# Altium schematic symbol library Filter.SchLib: 78 symbols
Pins are listed as number, name and electrical type; pins without a type are passive.

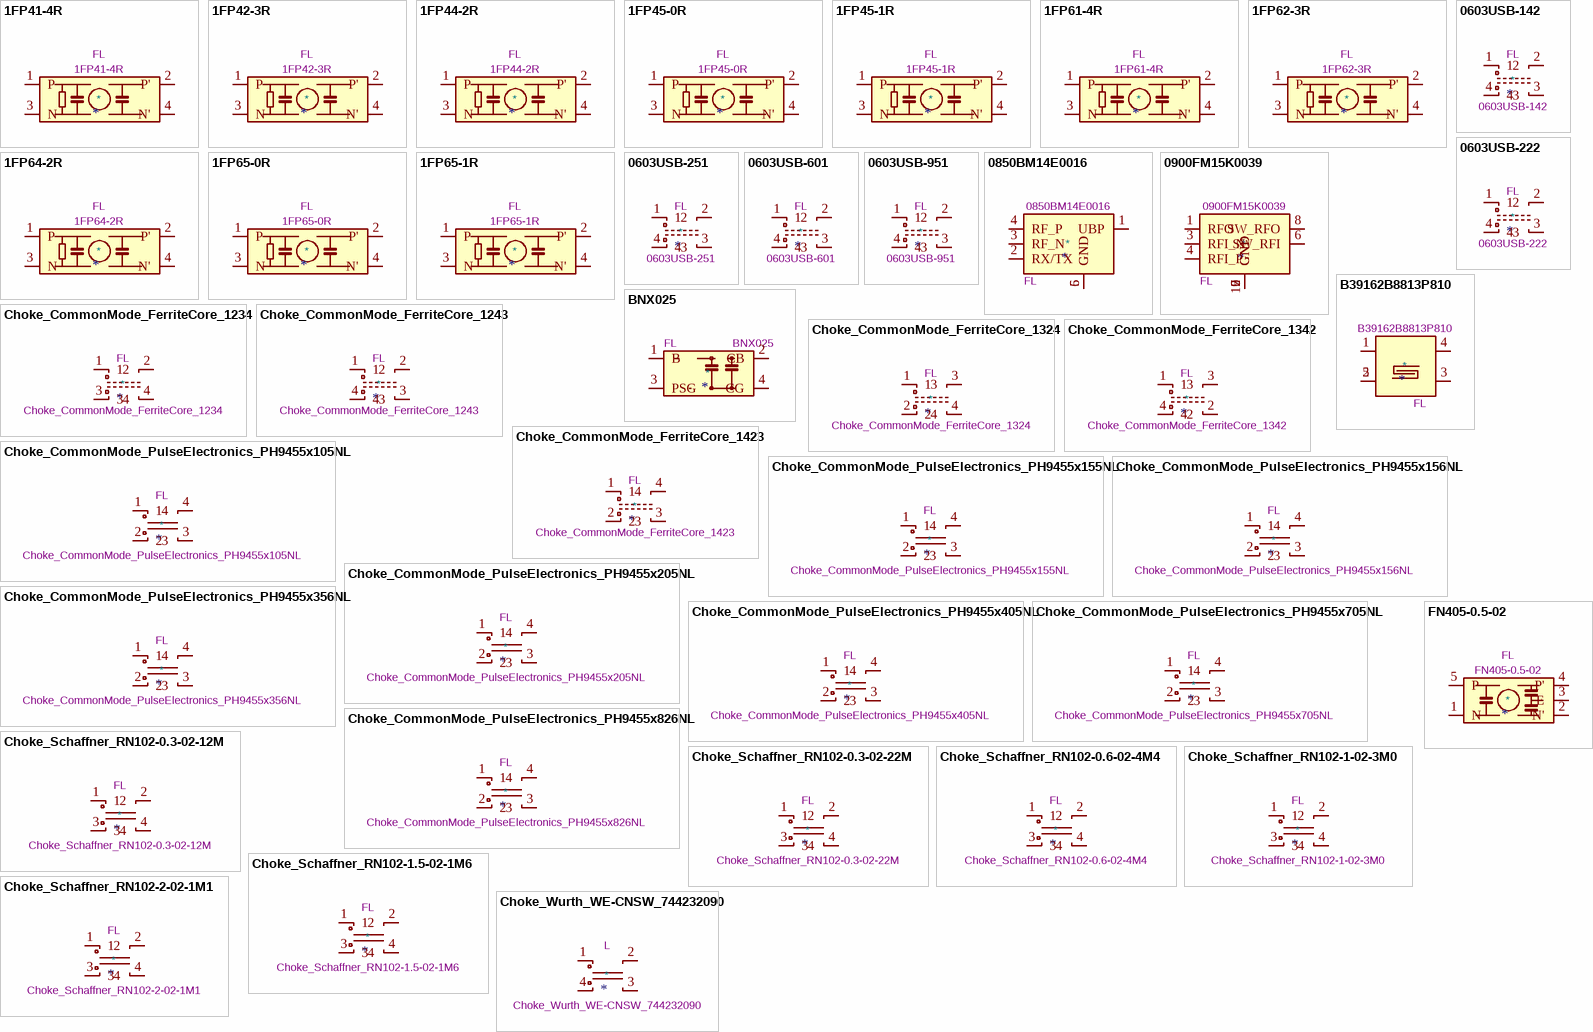
[diagram p0: symbols 1FP41-4R to FN405-0.5-02]

## 1FP41-4R
designator *  value 1FP41-4R  Reference: FL
4A, 250VAC, 50/60Hz line filter; ki_keywords: EMI; ki_fp_filters: Filter*FILTERCON*1FPxx*; Footprint: Filter:Filter_FILTERCON_1FPxx; Datasheet: https://filtercon.com.pl/wp-content/uploads/2019/07/Karta-katalogowa-FP-12-1.pdf; Description_: 4A, 250VAC, 50/60Hz line filter
pins: 1 P, 2 P', 3 N, 4 N'

## 1FP42-3R
designator *  value 1FP42-3R  Reference: FL
3A, 250VAC, 50/60Hz line filter; ki_keywords: EMI; ki_fp_filters: Filter*FILTERCON*1FPxx*; Footprint: Filter:Filter_FILTERCON_1FPxx; Datasheet: https://filtercon.com.pl/wp-content/uploads/2019/07/Karta-katalogowa-FP-12-1.pdf; Description_: 3A, 250VAC, 50/60Hz line filter
pins: 1 P, 2 P', 3 N, 4 N'

## 1FP44-2R
designator *  value 1FP44-2R  Reference: FL
2A, 250VAC, 50/60Hz line filter; ki_keywords: EMI; ki_fp_filters: Filter*FILTERCON*1FPxx*; Footprint: Filter:Filter_FILTERCON_1FPxx; Datasheet: https://filtercon.com.pl/wp-content/uploads/2019/07/Karta-katalogowa-FP-12-1.pdf; Description_: 2A, 250VAC, 50/60Hz line filter
pins: 1 P, 2 P', 3 N, 4 N'

## 1FP45-0R
designator *  value 1FP45-0R  Reference: FL
0.5A, 250VAC, 50/60Hz line filter; ki_keywords: EMI; ki_fp_filters: Filter*FILTERCON*1FPxx*; Footprint: Filter:Filter_FILTERCON_1FPxx; Datasheet: https://filtercon.com.pl/wp-content/uploads/2019/07/Karta-katalogowa-FP-12-1.pdf; Description_: 0.5A, 250VAC, 50/60Hz line filter
pins: 1 P, 2 P', 3 N, 4 N'

## 1FP45-1R
designator *  value 1FP45-1R  Reference: FL
1A, 250VAC, 50/60Hz line filter; ki_keywords: EMI; ki_fp_filters: Filter*FILTERCON*1FPxx*; Footprint: Filter:Filter_FILTERCON_1FPxx; Datasheet: https://filtercon.com.pl/wp-content/uploads/2019/07/Karta-katalogowa-FP-12-1.pdf; Description_: 1A, 250VAC, 50/60Hz line filter
pins: 1 P, 2 P', 3 N, 4 N'

## 1FP61-4R
designator *  value 1FP61-4R  Reference: FL
4A, 250VAC, 50/60Hz line filter; ki_keywords: EMI; ki_fp_filters: Filter*FILTERCON*1FPxx*; Footprint: Filter:Filter_FILTERCON_1FPxx; Datasheet: https://filtercon.com.pl/wp-content/uploads/2019/07/Karta-katalogowa-FP-12-1.pdf; Description_: 4A, 250VAC, 50/60Hz line filter
pins: 1 P, 2 P', 3 N, 4 N'

## 1FP62-3R
designator *  value 1FP62-3R  Reference: FL
3A, 250VAC, 50/60Hz line filter; ki_keywords: EMI; ki_fp_filters: Filter*FILTERCON*1FPxx*; Footprint: Filter:Filter_FILTERCON_1FPxx; Datasheet: https://filtercon.com.pl/wp-content/uploads/2019/07/Karta-katalogowa-FP-12-1.pdf; Description_: 3A, 250VAC, 50/60Hz line filter
pins: 1 P, 2 P', 3 N, 4 N'

## 1FP64-2R
designator *  value 1FP64-2R  Reference: FL
2A, 250VAC, 50/60Hz line filter; ki_keywords: EMI; ki_fp_filters: Filter*FILTERCON*1FPxx*; Footprint: Filter:Filter_FILTERCON_1FPxx; Datasheet: https://filtercon.com.pl/wp-content/uploads/2019/07/Karta-katalogowa-FP-12-1.pdf; Description_: 2A, 250VAC, 50/60Hz line filter
pins: 1 P, 2 P', 3 N, 4 N'

## 1FP65-0R
designator *  value 1FP65-0R  Reference: FL
0.5A, 250VAC, 50/60Hz line filter; ki_keywords: EMI; ki_fp_filters: Filter*FILTERCON*1FPxx*; Footprint: Filter:Filter_FILTERCON_1FPxx; Datasheet: https://filtercon.com.pl/wp-content/uploads/2019/07/Karta-katalogowa-FP-12-1.pdf; Description_: 0.5A, 250VAC, 50/60Hz line filter
pins: 1 P, 2 P', 3 N, 4 N'

## 1FP65-1R
designator *  value 1FP65-1R  Reference: FL
1A, 250VAC, 50/60Hz line filter; ki_keywords: EMI; ki_fp_filters: Filter*FILTERCON*1FPxx*; Footprint: Filter:Filter_FILTERCON_1FPxx; Datasheet: https://filtercon.com.pl/wp-content/uploads/2019/07/Karta-katalogowa-FP-12-1.pdf; Description_: 1A, 250VAC, 50/60Hz line filter
pins: 1 P, 2 P', 3 N, 4 N'

## 0603USB-142
designator *  value 0603USB-142  Reference: FL
Coilcraft common mode choke, 500mA, 250VAC, 98nH, 174mohm, 1.9Ghz; ki_keywords: signal line filter; ki_fp_filters: L*CommonModeChoke*Coilcraft*0603USB*; Footprint: Inductor_SMD:L_CommonModeChoke_Coilcraft_0603USB; Datasheet: https://www.coilcraft.com/pdfs/0603usb.pdf; Description_: Coilcraft common mode choke, 500mA, 250VAC, 98nH, 174mohm, 1.9Ghz
pins: 1, 2, 3, 4

## 0603USB-222
designator *  value 0603USB-222  Reference: FL
Coilcraft common mode choke, 500mA, 250VAC, 150nH, 209mohm, 0.96Ghz; ki_keywords: signal line filter; ki_fp_filters: L*CommonModeChoke*Coilcraft*0603USB*; Footprint: Inductor_SMD:L_CommonModeChoke_Coilcraft_0603USB; Datasheet: https://www.coilcraft.com/pdfs/0603usb.pdf; Description_: Coilcraft common mode choke, 500mA, 250VAC, 150nH, 209mohm, 0.96Ghz
pins: 1, 2, 3, 4

## 0603USB-251
designator *  value 0603USB-251  Reference: FL
Coilcraft common mode choke, 500mA, 250VAC, 18nH, 77 mohm, 3.8Ghz; ki_keywords: signal line filter; ki_fp_filters: L*CommonModeChoke*Coilcraft*0603USB*; Footprint: Inductor_SMD:L_CommonModeChoke_Coilcraft_0603USB; Datasheet: https://www.coilcraft.com/pdfs/0603usb.pdf; Description_: Coilcraft common mode choke, 500mA, 250VAC, 18nH, 77 mohm, 3.8Ghz
pins: 1, 2, 3, 4

## 0603USB-601
designator *  value 0603USB-601  Reference: FL
Coilcraft common mode choke, 500mA, 250VAC, 37nH, 109mohm, 3.4Ghz; ki_keywords: signal line filter; ki_fp_filters: L*CommonModeChoke*Coilcraft*0603USB*; Footprint: Inductor_SMD:L_CommonModeChoke_Coilcraft_0603USB; Datasheet: https://www.coilcraft.com/pdfs/0603usb.pdf; Description_: Coilcraft common mode choke, 500mA, 250VAC, 37nH, 109mohm, 3.4Ghz
pins: 1, 2, 3, 4

## 0603USB-951
designator *  value 0603USB-951  Reference: FL
Coilcraft common mode choke, 500mA, 250VAC, 63nH, 142mohm, 2.8Ghz; ki_keywords: signal line filter; ki_fp_filters: L*CommonModeChoke*Coilcraft*0603USB*; Footprint: Inductor_SMD:L_CommonModeChoke_Coilcraft_0603USB; Datasheet: https://www.coilcraft.com/pdfs/0603usb.pdf; Description_: Coilcraft common mode choke, 500mA, 250VAC, 63nH, 142mohm, 2.8Ghz
pins: 1, 2, 3, 4

## 0850BM14E0016
designator *  value 0850BM14E0016  Reference: FL
Sub-GHz Impedance Matched Balun + LPF integrated Passive; ki_keywords: Sub-GHz Balun; ki_fp_filters: Balun*Johanson*1.6x0.8mm*; Footprint: RF_Converter:Balun_Johanson_1.6x0.8mm; Datasheet: https://www.johansontechnology.com/datasheets/0850BM14E0016/0850BM14E0016.pdf; Description_: Sub-GHz Impedance Matched Balun + LPF integrated Passive
pins: 1 UBP, 2 RX/TX, 3 RF_N, 4 RF_P, 5 GND, 6 GND

## 0900FM15K0039
designator *  value 0900FM15K0039  Reference: FL
868MHz/915MHz Sub-GHz Impedance Matched Filter integrated passive for Semtech SX1261, SX1262, LLCC68; ki_keywords: Sub-GHz filter; ki_fp_filters: Balun*Johanson*0900FM15K0039*; Footprint: RF_Converter:Balun_Johanson_0900FM15K0039; Datasheet: https://www.johansontechnology.com/datasheets/0900FM15K0039/0900FM15K0039.pdf; Description_: 868MHz/915MHz Sub-GHz Impedance Matched Filter integrated passive for Semtech SX1261, SX1262, LLCC68
pins: 1 RFO, 2 GND, 3 RFI_N, 4 RFI_P, 5 GND, 6 SW_RFI, 7 GND, 8 SW_RFO, 9 GND, 10 GND

## B39162B8813P810
designator *  value B39162B8813P810  Reference: FL
1582.47MHz SAW filter, SMD 1109; ki_fp_filters: Filter*1109*1.1x0.9mm*; Footprint: Filter:Filter_1109-5_1.1x0.9mm; Datasheet: https://product.tdk.com/search-template/en/documents/data_sheet/40/ds/mc/B9482.pdf; Description_: 1582.47MHz SAW filter, SMD 1109; ki_keywords: SAW filter
pins: 1, 2, 3, 4, 5

## BNX025
designator *  value BNX025  Reference: FL
EMI Filter SMD, Murata BNX025; ki_keywords: EMI Filter SMD Murata; ki_fp_filters: Filter*Murata*BNX025*; Footprint: Filter:Filter_Murata_BNX025; Datasheet: https://www.murata.com/en-us/products/productdetail.aspx?cate=luNoiseSupprFilteBlockType&partno=BNX025H01%23; Description_: EMI Filter SMD, Murata BNX025
pins: 1 B, 2 CB, 3 PSG, 4 CG

## Choke_CommonMode_FerriteCore_1234
designator *  value Choke_CommonMode_FerriteCore_1234  Reference: FL
Generic common-mode choke, ferrite core, 1234 pin order; ki_keywords: signal line filter; Datasheet: ~; Description_: Generic common-mode choke, ferrite core, 1234 pin order
pins: 1, 2, 3, 4

## Choke_CommonMode_FerriteCore_1243
designator *  value Choke_CommonMode_FerriteCore_1243  Reference: FL
Generic common-mode choke, ferrite core, 1243 pin order; ki_keywords: signal line filter; Datasheet: ~; Description_: Generic common-mode choke, ferrite core, 1243 pin order
pins: 1, 2, 3, 4

## Choke_CommonMode_FerriteCore_1324
designator *  value Choke_CommonMode_FerriteCore_1324  Reference: FL
Generic common-mode choke, ferrite core, 1324 pin order; ki_keywords: signal line filter; Datasheet: ~; Description_: Generic common-mode choke, ferrite core, 1324 pin order
pins: 1, 2, 3, 4

## Choke_CommonMode_FerriteCore_1342
designator *  value Choke_CommonMode_FerriteCore_1342  Reference: FL
Generic common-mode choke, ferrite core, 1342 pin order; ki_keywords: signal line filter; Datasheet: ~; Description_: Generic common-mode choke, ferrite core, 1342 pin order
pins: 1, 2, 3, 4

## Choke_CommonMode_FerriteCore_1423
designator *  value Choke_CommonMode_FerriteCore_1423  Reference: FL
Generic common-mode choke, ferrite core, 1423 pin order; ki_keywords: signal line filter; Datasheet: ~; Description_: Generic common-mode choke, ferrite core, 1423 pin order
pins: 1, 2, 3, 4

## Choke_CommonMode_PulseElectronics_PH9455x105NL
designator *  value Choke_CommonMode_PulseElectronics_PH9455x105NL  Reference: FL
Common mode choke, 22A, 380VAC, 1mH, 2.1 mOhm, PH9455x105NL; ki_keywords: common-mode common mode choke powerline power line filter; ki_fp_filters: L*CommonMode*PulseElectronics*PH9455x105NL?1*; Footprint: Inductor_THT:L_CommonMode_PulseElectronics_PH9455x105NL_1; Datasheet: https://productfinder.pulseelectronics.com/api/open/product-attachments/datasheet/ph9455.105nl; Description_: Common mode choke, 22A, 380VAC, 1mH, 2.1 mOhm, PH9455x105NL
pins: 1, 2, 3, 4

## Choke_CommonMode_PulseElectronics_PH9455x155NL
designator *  value Choke_CommonMode_PulseElectronics_PH9455x155NL  Reference: FL
Common mode choke, 19A, 380VAC, 1.62mH, 3.2 mOhm, PH9455x155NL; ki_keywords: common-mode common mode choke powerline power line filter; ki_fp_filters: L*CommonMode*PulseElectronics*PH9455x155NL?1*; Footprint: Inductor_THT:L_CommonMode_PulseElectronics_PH9455x155NL_1; Datasheet: https://productfinder.pulseelectronics.com/api/open/product-attachments/datasheet/ph9455.105nl; Description_: Common mode choke, 19A, 380VAC, 1.62mH, 3.2 mOhm, PH9455x155NL
pins: 1, 2, 3, 4

## Choke_CommonMode_PulseElectronics_PH9455x156NL
designator *  value Choke_CommonMode_PulseElectronics_PH9455x156NL  Reference: FL
Common mode choke, 6A, 380VAC, 15mH, 30 mOhm, PH9455x156NL; ki_keywords: common-mode common mode choke powerline power line filter; ki_fp_filters: L*CommonMode*PulseElectronics*PH9455xxx6NL?2*; Footprint: Inductor_THT:L_CommonMode_PulseElectronics_PH9455xxx6NL_2; Datasheet: https://productfinder.pulseelectronics.com/api/open/product-attachments/datasheet/ph9455.105nl; Description_: Common mode choke, 6A, 380VAC, 15mH, 30 mOhm, PH9455x156NL
pins: 1, 2, 3, 4

## Choke_CommonMode_PulseElectronics_PH9455x205NL
designator *  value Choke_CommonMode_PulseElectronics_PH9455x205NL  Reference: FL
Common mode choke, 16A, 380VAC, 2.2mH, 4.5 mOhm, PH9455x205NL; ki_keywords: common-mode common mode choke powerline power line filter; ki_fp_filters: L*CommonMode*PulseElectronics*PH9455x205NL?1*; Footprint: Inductor_THT:L_CommonMode_PulseElectronics_PH9455x205NL_1; Datasheet: https://productfinder.pulseelectronics.com/api/open/product-attachments/datasheet/ph9455.105nl; Description_: Common mode choke, 16A, 380VAC, 2.2mH, 4.5 mOhm, PH9455x205NL
pins: 1, 2, 3, 4

## Choke_CommonMode_PulseElectronics_PH9455x356NL
designator *  value Choke_CommonMode_PulseElectronics_PH9455x356NL  Reference: FL
Common mode choke, 4A, 380VAC, 35mH, 80 mOhm, PH9455x356NL; ki_keywords: common-mode common mode choke powerline power line filter; ki_fp_filters: L*CommonMode*PulseElectronics*PH9455xxx6NL?2*; Footprint: Inductor_THT:L_CommonMode_PulseElectronics_PH9455xxx6NL_2; Datasheet: https://productfinder.pulseelectronics.com/api/open/product-attachments/datasheet/ph9455.105nl; Description_: Common mode choke, 4A, 380VAC, 35mH, 80 mOhm, PH9455x356NL
pins: 1, 2, 3, 4

## Choke_CommonMode_PulseElectronics_PH9455x405NL
designator *  value Choke_CommonMode_PulseElectronics_PH9455x405NL  Reference: FL
Common mode choke, 12A, 380VAC, 4.5mH, 8.5 mOhm, PH9455x405NL; ki_keywords: common-mode common mode choke powerline power line filter; ki_fp_filters: L*CommonMode*PulseElectronics*PH9455x405NL?1*; Footprint: Inductor_THT:L_CommonMode_PulseElectronics_PH9455x405NL_1; Datasheet: https://productfinder.pulseelectronics.com/api/open/product-attachments/datasheet/ph9455.105nl; Description_: Common mode choke, 12A, 380VAC, 4.5mH, 8.5 mOhm, PH9455x405NL
pins: 1, 2, 3, 4

## Choke_CommonMode_PulseElectronics_PH9455x705NL
designator *  value Choke_CommonMode_PulseElectronics_PH9455x705NL  Reference: FL
Common mode choke, 9A, 380VAC, 6.5mH, 14 mOhm, PH9455x705NL; ki_keywords: common-mode common mode choke powerline power line filter; ki_fp_filters: L*CommonMode*PulseElectronics*PH9455x705NL?1*; Footprint: Inductor_THT:L_CommonMode_PulseElectronics_PH9455x705NL_1; Datasheet: https://productfinder.pulseelectronics.com/api/open/product-attachments/datasheet/ph9455.105nl; Description_: Common mode choke, 9A, 380VAC, 6.5mH, 14 mOhm, PH9455x705NL
pins: 1, 2, 3, 4

## Choke_CommonMode_PulseElectronics_PH9455x826NL
designator *  value Choke_CommonMode_PulseElectronics_PH9455x826NL  Reference: FL
Common mode choke, 3A, 380VAC, 82mH, 150 mOhm, PH9455x826NL; ki_keywords: common-mode common mode choke powerline power line filter; ki_fp_filters: L*CommonMode*PulseElectronics*PH9455xxx6NL?2*; Footprint: Inductor_THT:L_CommonMode_PulseElectronics_PH9455xxx6NL_2; Datasheet: https://productfinder.pulseelectronics.com/api/open/product-attachments/datasheet/ph9455.105nl; Description_: Common mode choke, 3A, 380VAC, 82mH, 150 mOhm, PH9455x826NL
pins: 1, 2, 3, 4

## Choke_Schaffner_RN102-0.3-02-12M
designator *  value Choke_Schaffner_RN102-0.3-02-12M  Reference: FL
Common mode choke, 300mA, 300VAC, 12mH, 1.1 ohm, RN-102; ki_keywords: common-mode common mode choke powerline power line filter; ki_fp_filters: Choke*Schaffner*RN102*; Footprint: Inductor_THT:Choke_Schaffner_RN102-04-14.0x14.0mm; Datasheet: https://www.schaffner.com/products/download/product/datasheet/rn-series-common-mode-chokes-new/; Description_: Common mode choke, 300mA, 300VAC, 12mH, 1.1 ohm, RN-102
pins: 1, 2, 3, 4

## Choke_Schaffner_RN102-0.3-02-22M
designator *  value Choke_Schaffner_RN102-0.3-02-22M  Reference: FL
Common mode choke, 300mA, 300VAC, 22mH, 1.3 ohm, RN-102; ki_keywords: common-mode common mode choke powerline power line filter; ki_fp_filters: Choke*Schaffner*RN102*; Footprint: Inductor_THT:Choke_Schaffner_RN102-04-14.0x14.0mm; Datasheet: https://www.schaffner.com/products/download/product/datasheet/rn-series-common-mode-chokes-new/; Description_: Common mode choke, 300mA, 300VAC, 22mH, 1.3 ohm, RN-102
pins: 1, 2, 3, 4

## Choke_Schaffner_RN102-0.6-02-4M4
designator *  value Choke_Schaffner_RN102-0.6-02-4M4  Reference: FL
Common mode choke, 600mA, 300VAC, 4.4mH, 380mohm, RN-102; ki_keywords: common-mode common mode choke powerline power line filter; ki_fp_filters: Choke*Schaffner*RN102*; Footprint: Inductor_THT:Choke_Schaffner_RN102-04-14.0x14.0mm; Datasheet: https://www.schaffner.com/products/download/product/datasheet/rn-series-common-mode-chokes-new/; Description_: Common mode choke, 600mA, 300VAC, 4.4mH, 380mohm, RN-102
pins: 1, 2, 3, 4

## Choke_Schaffner_RN102-1-02-3M0
designator *  value Choke_Schaffner_RN102-1-02-3M0  Reference: FL
Common mode choke, 1A, 300VAC, 3mH, 210mohm, RN-102; ki_keywords: common-mode common mode choke powerline power line filter; ki_fp_filters: Choke*Schaffner*RN102*; Footprint: Inductor_THT:Choke_Schaffner_RN102-04-14.0x14.0mm; Datasheet: https://www.schaffner.com/products/download/product/datasheet/rn-series-common-mode-chokes-new/; Description_: Common mode choke, 1A, 300VAC, 3mH, 210mohm, RN-102
pins: 1, 2, 3, 4

## Choke_Schaffner_RN102-1.5-02-1M6
designator *  value Choke_Schaffner_RN102-1.5-02-1M6  Reference: FL
Common mode choke, 1.5A, 300VAC, 1.6mH, 94mohm, RN-102; ki_keywords: common-mode common mode choke powerline power line filter; ki_fp_filters: Choke*Schaffner*RN102*; Footprint: Inductor_THT:Choke_Schaffner_RN102-04-14.0x14.0mm; Datasheet: https://www.schaffner.com/products/download/product/datasheet/rn-series-common-mode-chokes-new/; Description_: Common mode choke, 1.5A, 300VAC, 1.6mH, 94mohm, RN-102
pins: 1, 2, 3, 4

## Choke_Schaffner_RN102-2-02-1M1
designator *  value Choke_Schaffner_RN102-2-02-1M1  Reference: FL
Common mode choke, 2A, 300VAC, 1.1mH, 70mohm, RN-102; ki_keywords: common-mode common mode choke powerline power line filter; ki_fp_filters: Choke*Schaffner*RN102*; Footprint: Inductor_THT:Choke_Schaffner_RN102-04-14.0x14.0mm; Datasheet: https://www.schaffner.com/products/download/product/datasheet/rn-series-common-mode-chokes-new/; Description_: Common mode choke, 2A, 300VAC, 1.1mH, 70mohm, RN-102
pins: 1, 2, 3, 4

## Choke_Wurth_WE-CNSW_744232090
designator *  value Choke_Wurth_WE-CNSW_744232090  Reference: L
Common mode choke, 370 mA, 125VDC, USB2.0, 111 nH; ki_keywords: common mode choke emi usb; ki_fp_filters: L*CommonMode*Wurth*WE*CNSW*1206*; Footprint: Inductor_SMD:L_CommonMode_Wurth_WE-CNSW-1206; Datasheet: https://www.we-online.com/components/products/datasheet/744232090.pdf; Description_: Common mode choke, 370 mA, 125VDC, USB2.0, 111 nH
pins: 1, 2, 3, 4

## FN405-0.5-02
designator *  value FN405-0.5-02  Reference: FL
0.5A, 250VAC, 50/60Hz line filter; ki_keywords: EMI; ki_fp_filters: Filter*Schaffner*FN405*; Footprint: Filter:Filter_Schaffner_FN405; Datasheet: https://www.schaffner.com/de/produkte/download/product/datasheet/fn-405-pcb-mounting-filter/; Description_: 0.5A, 250VAC, 50/60Hz line filter
pins: 1 N, 2 N', 3 E, 4 P', 5 P

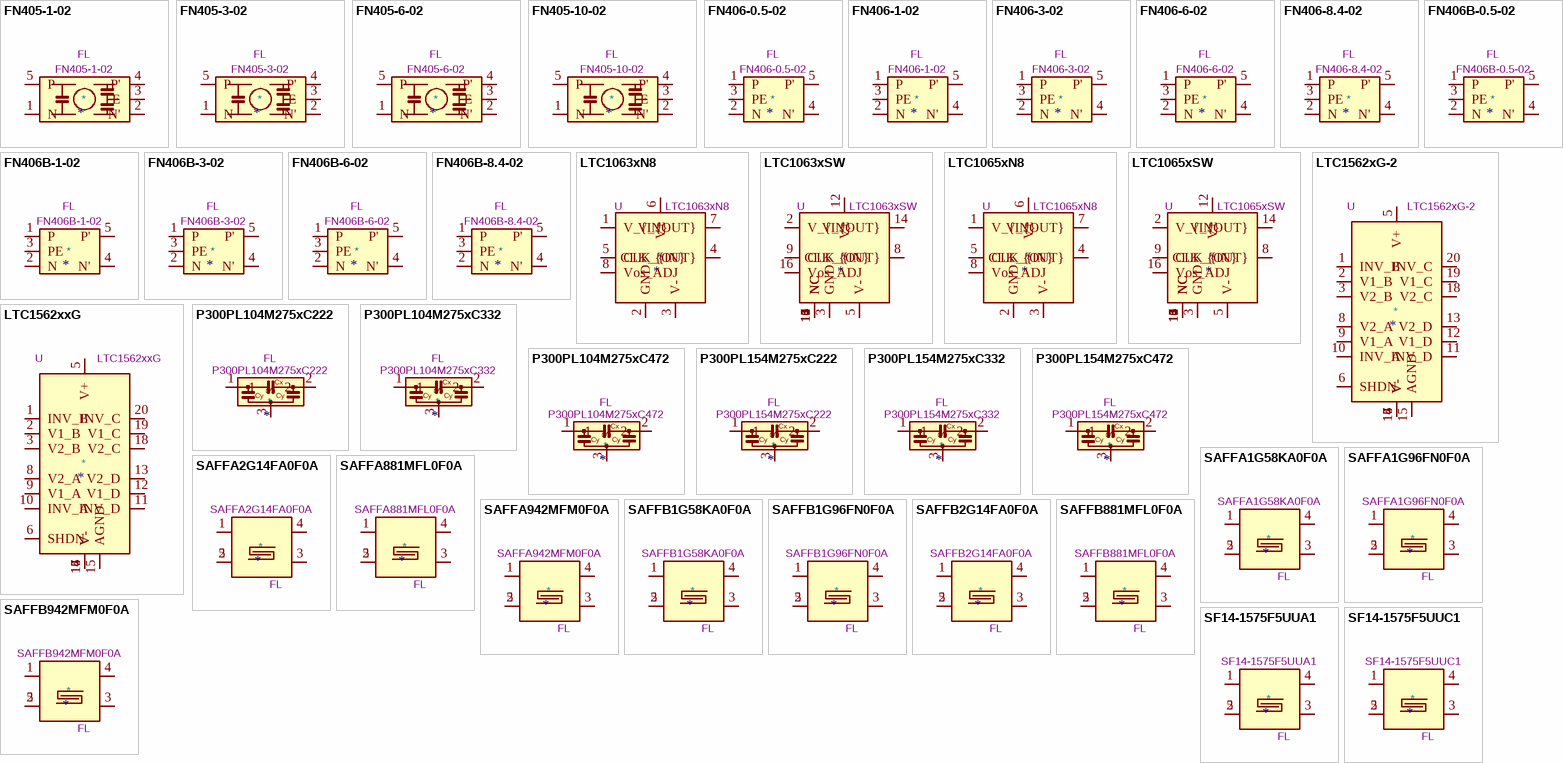
[diagram p1: symbols FN405-1-02 to SF14-1575F5UUC1]

## FN405-1-02
designator *  value FN405-1-02  Reference: FL
1A, 250VAC, 50/60Hz line filter; ki_keywords: EMI; ki_fp_filters: Filter*Schaffner*FN405*; Footprint: Filter:Filter_Schaffner_FN405; Datasheet: https://www.schaffner.com/de/produkte/download/product/datasheet/fn-405-pcb-mounting-filter/; Description_: 1A, 250VAC, 50/60Hz line filter
pins: 1 N, 2 N', 3 E, 4 P', 5 P

## FN405-3-02
designator *  value FN405-3-02  Reference: FL
3A, 250VAC, 50/60Hz line filter; ki_keywords: EMI; ki_fp_filters: Filter*Schaffner*FN405*; Footprint: Filter:Filter_Schaffner_FN405; Datasheet: https://www.schaffner.com/de/produkte/download/product/datasheet/fn-405-pcb-mounting-filter/; Description_: 3A, 250VAC, 50/60Hz line filter
pins: 1 N, 2 N', 3 E, 4 P', 5 P

## FN405-6-02
designator *  value FN405-6-02  Reference: FL
6A, 250VAC, 50/60Hz line filter; ki_keywords: EMI; ki_fp_filters: Filter*Schaffner*FN405*; Footprint: Filter:Filter_Schaffner_FN405; Datasheet: https://www.schaffner.com/de/produkte/download/product/datasheet/fn-405-pcb-mounting-filter/; Description_: 6A, 250VAC, 50/60Hz line filter
pins: 1 N, 2 N', 3 E, 4 P', 5 P

## FN405-10-02
designator *  value FN405-10-02  Reference: FL
10A, 250VAC, 50/60Hz line filter; ki_keywords: EMI; ki_fp_filters: Filter*Schaffner*FN405*; Footprint: Filter:Filter_Schaffner_FN405; Datasheet: https://www.schaffner.com/de/produkte/download/product/datasheet/fn-405-pcb-mounting-filter/; Description_: 10A, 250VAC, 50/60Hz line filter
pins: 1 N, 2 N', 3 E, 4 P', 5 P

## FN406-0.5-02
designator *  value FN406-0.5-02  Reference: FL
0.5A ultra compact EMI Filter; ki_keywords: EMI mains; ki_fp_filters: Filter*Schaffner*FN406*; Footprint: Filter:Filter_Schaffner_FN406; Datasheet: https://www.schaffner.com/products/download/product/datasheet/fn-406-ultra-compact-emc-filter/; Description_: 0.5A ultra compact EMI Filter
pins: 1 P, 2 N, 3 PE, 4 N', 5 P'

## FN406-1-02
designator *  value FN406-1-02  Reference: FL
1A ultra compact EMI Filter; ki_keywords: EMI mains; ki_fp_filters: Filter*Schaffner*FN406*; Footprint: Filter:Filter_Schaffner_FN406; Datasheet: https://www.schaffner.com/products/download/product/datasheet/fn-406-ultra-compact-emc-filter/; Description_: 1A ultra compact EMI Filter
pins: 1 P, 2 N, 3 PE, 4 N', 5 P'

## FN406-3-02
designator *  value FN406-3-02  Reference: FL
3A ultra compact EMI Filter; ki_keywords: EMI mains; ki_fp_filters: Filter*Schaffner*FN406*; Footprint: Filter:Filter_Schaffner_FN406; Datasheet: https://www.schaffner.com/products/download/product/datasheet/fn-406-ultra-compact-emc-filter/; Description_: 3A ultra compact EMI Filter
pins: 1 P, 2 N, 3 PE, 4 N', 5 P'

## FN406-6-02
designator *  value FN406-6-02  Reference: FL
6A ultra compact EMI Filter; ki_keywords: EMI mains; ki_fp_filters: Filter*Schaffner*FN406*; Footprint: Filter:Filter_Schaffner_FN406; Datasheet: https://www.schaffner.com/products/download/product/datasheet/fn-406-ultra-compact-emc-filter/; Description_: 6A ultra compact EMI Filter
pins: 1 P, 2 N, 3 PE, 4 N', 5 P'

## FN406-8.4-02
designator *  value FN406-8.4-02  Reference: FL
8.4A ultra compact EMI Filter; ki_keywords: EMI mains; ki_fp_filters: Filter*Schaffner*FN406*; Footprint: Filter:Filter_Schaffner_FN406; Datasheet: https://www.schaffner.com/products/download/product/datasheet/fn-406-ultra-compact-emc-filter/; Description_: 8.4A ultra compact EMI Filter
pins: 1 P, 2 N, 3 PE, 4 N', 5 P'

## FN406B-0.5-02
designator *  value FN406B-0.5-02  Reference: FL
0.5A ultra compact EMI Filter, medical version; ki_keywords: EMI mains; ki_fp_filters: Filter*Schaffner*FN406*; Footprint: Filter:Filter_Schaffner_FN406; Datasheet: https://www.schaffner.com/products/download/product/datasheet/fn-406-ultra-compact-emc-filter/; Description_: 0.5A ultra compact EMI Filter, medical version
pins: 1 P, 2 N, 3 PE, 4 N', 5 P'

## FN406B-1-02
designator *  value FN406B-1-02  Reference: FL
1A ultra compact EMI Filter, medical version; ki_keywords: EMI mains; ki_fp_filters: Filter*Schaffner*FN406*; Footprint: Filter:Filter_Schaffner_FN406; Datasheet: https://www.schaffner.com/products/download/product/datasheet/fn-406-ultra-compact-emc-filter/; Description_: 1A ultra compact EMI Filter, medical version
pins: 1 P, 2 N, 3 PE, 4 N', 5 P'

## FN406B-3-02
designator *  value FN406B-3-02  Reference: FL
3A ultra compact EMI Filter, medical version; ki_keywords: EMI mains; ki_fp_filters: Filter*Schaffner*FN406*; Footprint: Filter:Filter_Schaffner_FN406; Datasheet: https://www.schaffner.com/products/download/product/datasheet/fn-406-ultra-compact-emc-filter/; Description_: 3A ultra compact EMI Filter, medical version
pins: 1 P, 2 N, 3 PE, 4 N', 5 P'

## FN406B-6-02
designator *  value FN406B-6-02  Reference: FL
6A ultra compact EMI Filter, medical version; ki_keywords: EMI mains; ki_fp_filters: Filter*Schaffner*FN406*; Footprint: Filter:Filter_Schaffner_FN406; Datasheet: https://www.schaffner.com/products/download/product/datasheet/fn-406-ultra-compact-emc-filter/; Description_: 6A ultra compact EMI Filter, medical version
pins: 1 P, 2 N, 3 PE, 4 N', 5 P'

## FN406B-8.4-02
designator *  value FN406B-8.4-02  Reference: FL
8.4A ultra compact EMI Filter, medical version; ki_keywords: EMI mains; ki_fp_filters: Filter*Schaffner*FN406*; Footprint: Filter:Filter_Schaffner_FN406; Datasheet: https://www.schaffner.com/products/download/product/datasheet/fn-406-ultra-compact-emc-filter/; Description_: 8.4A ultra compact EMI Filter, medical version
pins: 1 P, 2 N, 3 PE, 4 N', 5 P'

## LTC1063xN8
designator *  value LTC1063xN8  Reference: U
5th-Order Active Low Pass Filter, 0.0003 to 50kHz, Butterworth Response, Clock Tunable, 100:1 Clock to Cutoff Frequency, Low DC offset, 8V Max dual supply, DIP-8; ki_keywords: Analog-Devices; ki_fp_filters: DIP*W7.62mm*; Footprint: Package_DIP:DIP-8_W7.62mm; Datasheet: https://www.analog.com/en/ltc1063/datasheet; Description_: 5th-Order Active Low Pass Filter, 0.0003 to 50kHz, Butterworth Response, Clock Tunable, 100:1 Clock to Cutoff Frequency, Low DC offset, 8V Max dual supply, DIP-8
pins: 1 V_{IN}, 2 GND, 3 V-, 4 CLK_{OUT}, 5 CLK_{IN}, 6 V+, 7 V_{OUT}, 8 Vos_ADJ

## LTC1063xSW
designator *  value LTC1063xSW  Reference: U
5th-Order Active Low Pass Filter, 0.0003 to 50kHz, Butterworth Response, Clock Tunable, 100:1 Clock to Cutoff Frequency, Low DC offset, 8V Max dual supply, SOIC-16; ki_keywords: Analog-Devices; ki_fp_filters: SOIC*7.5x10.3mm*P1.27mm*; Footprint: Package_SO:SOIC-16W_7.5x10.3mm_P1.27mm; Datasheet: https://www.analog.com/en/ltc1063/datasheet; Description_: 5th-Order Active Low Pass Filter, 0.0003 to 50kHz, Butterworth Response, Clock Tunable, 100:1 Clock to Cutoff Frequency, Low DC offset, 8V Max dual supply, SOIC-16
pins: 1 NC, 2 V_{IN}, 3 GND, 4 NC, 5 V-, 6 NC, 7 NC, 8 CLK_{OUT}, 9 CLK_{IN}, 10 NC, 11 NC, 12 V+, 13 NC, 14 V_{OUT}, 15 NC, 16 Vos_ADJ

## LTC1065xN8
designator *  value LTC1065xN8  Reference: U
5th-Order Active Low Pass Filter, 0.0003 to 50kHz, Bessel Response, Clock Tunable, 100:1 Clock to Cutoff Frequency, Low DC offset, 8V Max dual supply, DIP-8; ki_keywords: Analog-Devices; ki_fp_filters: DIP*W7.62mm*; Footprint: Package_DIP:DIP-8_W7.62mm; Datasheet: https://www.analog.com/media/en/technical-documentation/data-sheets/1065fb.pdf; Description_: 5th-Order Active Low Pass Filter, 0.0003 to 50kHz, Bessel Response, Clock Tunable, 100:1 Clock to Cutoff Frequency, Low DC offset, 8V Max dual supply, DIP-8
pins: 1 V_{IN}, 2 GND, 3 V-, 4 CLK_{OUT}, 5 CLK_{IN}, 6 V+, 7 V_{OUT}, 8 Vos_ADJ

## LTC1065xSW
designator *  value LTC1065xSW  Reference: U
5th-Order Active Low Pass Filter, 0.0003 to 50kHz, Bessel Response, Clock Tunable, 100:1 Clock to Cutoff Frequency, Low DC offset, 8V Max dual supply, SOIC-16; ki_keywords: Analog-Devices; ki_fp_filters: SOIC*7.5x10.3mm*P1.27mm*; Footprint: Package_SO:SOIC-16W_7.5x10.3mm_P1.27mm; Datasheet: https://www.analog.com/media/en/technical-documentation/data-sheets/1065fb.pdf; Description_: 5th-Order Active Low Pass Filter, 0.0003 to 50kHz, Bessel Response, Clock Tunable, 100:1 Clock to Cutoff Frequency, Low DC offset, 8V Max dual supply, SOIC-16
pins: 1 NC, 2 V_{IN}, 3 GND, 4 NC, 5 V-, 6 NC, 7 NC, 8 CLK_{OUT}, 9 CLK_{IN}, 10 NC, 11 NC, 12 V+, 13 NC, 14 V_{OUT}, 15 NC, 16 Vos_ADJ

## LTC1562xG-2
designator *  value LTC1562xG-2  Reference: U
Active RC Quad Universal Filter, 20kHz to 300kHz, Low Noise, Low Distortion, SSOP-20; ki_keywords: filter opamp quad; ki_fp_filters: SSOP*5.3x7.2mm*P0.65mm*; Footprint: Package_SO:SSOP-20_5.3x7.2mm_P0.65mm; Datasheet: https://www.analog.com/media/en/technical-documentation/data-sheets/15622fa.pdf; Description_: Active RC Quad Universal Filter, 20kHz to 300kHz, Low Noise, Low Distortion, SSOP-20
pins: 1 INV_B, 2 V1_B, 3 V2_B, 4 V-, 5 V+, 6 SHDN, 7 V-, 8 V2_A, 9 V1_A, 10 INV_A, 11 INV_D, 12 V1_D, 13 V2_D, 14 V-, 15 AGND, 16 V-, 17 V-, 18 V2_C, 19 V1_C, 20 INV_C

## LTC1562xxG
designator *  value LTC1562xxG  Reference: U
Active RC Quad Universal Filter, 10kHz to 150kHz, Low Noise, Low Distortion, SSOP-20; ki_keywords: filter opamp quad; ki_fp_filters: SSOP*5.3x7.2mm*P0.65mm*; Footprint: Package_SO:SSOP-20_5.3x7.2mm_P0.65mm; Datasheet: https://www.analog.com/media/en/technical-documentation/data-sheets/1562fa.pdf; Description_: Active RC Quad Universal Filter, 10kHz to 150kHz, Low Noise, Low Distortion, SSOP-20
pins: 1 INV_B, 2 V1_B, 3 V2_B, 4 V-, 5 V+, 6 SHDN, 7 V-, 8 V2_A, 9 V1_A, 10 INV_A, 11 INV_D, 12 V1_D, 13 V2_D, 14 V-, 15 AGND, 16 V-, 17 V-, 18 V2_C, 19 V1_C, 20 INV_C

## P300PL104M275xC222
designator *  value P300PL104M275xC222  Reference: FL
EMI suppression capacitor PZB300 series, metallized paper, X2 and Y2 classes, 275 VAC, Cx 0.10uF, Cy 2.2nF, legacy P/N: PZB300MC11xxx; ki_keywords: suppressor filter cap; ki_fp_filters: Filter*PZB300*; Footprint: Filter:Filter_KEMET_PZB300_24.0x12.5mm_P10.0mm; Datasheet: https://content.kemet.com/datasheets/KEM_F3019_PZB300X2_2XY2_275.pdf; Description_: EMI suppression capacitor PZB300 series, metallized paper, X2 and Y2 classes, 275 VAC, Cx 0.10uF, Cy 2.2nF, legacy P/N: PZB300MC11xxx
pins: 1, 2, 3
text: Cx; Cy

## P300PL104M275xC332
designator *  value P300PL104M275xC332  Reference: FL
EMI suppression capacitor PZB300 series, metallized paper, X2 and Y2 classes, 275 VAC, Cx 0.10uF, Cy 3.3nF, legacy P/N: PZB300MC12xxx; ki_keywords: suppressor filter cap; ki_fp_filters: Filter*PZB300*; Footprint: Filter:Filter_KEMET_PZB300_24.0x12.5mm_P10.0mm; Datasheet: https://content.kemet.com/datasheets/KEM_F3019_PZB300X2_2XY2_275.pdf; Description_: EMI suppression capacitor PZB300 series, metallized paper, X2 and Y2 classes, 275 VAC, Cx 0.10uF, Cy 3.3nF, legacy P/N: PZB300MC12xxx
pins: 1, 2, 3
text: Cx; Cy

## P300PL104M275xC472
designator *  value P300PL104M275xC472  Reference: FL
EMI suppression capacitor PZB300 series, metallized paper, X2 and Y2 classes, 275 VAC, Cx 0.10uF, Cy 4.7nF, legacy P/N: PZB300MC13xxx; ki_keywords: suppressor filter cap; ki_fp_filters: Filter*PZB300*; Footprint: Filter:Filter_KEMET_PZB300_24.0x12.5mm_P10.0mm; Datasheet: https://content.kemet.com/datasheets/KEM_F3019_PZB300X2_2XY2_275.pdf; Description_: EMI suppression capacitor PZB300 series, metallized paper, X2 and Y2 classes, 275 VAC, Cx 0.10uF, Cy 4.7nF, legacy P/N: PZB300MC13xxx
pins: 1, 2, 3
text: Cx; Cy

## P300PL154M275xC222
designator *  value P300PL154M275xC222  Reference: FL
EMI suppression capacitor PZB300 series, metallized paper, X2 and Y2 classes, 275 VAC, Cx 0.15uF, Cy 2.2nF, legacy P/N: PZB300MC21xxx; ki_keywords: suppressor filter cap; ki_fp_filters: Filter*PZB300*; Footprint: Filter:Filter_KEMET_PZB300_24.0x12.5mm_P10.0mm; Datasheet: https://content.kemet.com/datasheets/KEM_F3019_PZB300X2_2XY2_275.pdf; Description_: EMI suppression capacitor PZB300 series, metallized paper, X2 and Y2 classes, 275 VAC, Cx 0.15uF, Cy 2.2nF, legacy P/N: PZB300MC21xxx
pins: 1, 2, 3
text: Cx; Cy

## P300PL154M275xC332
designator *  value P300PL154M275xC332  Reference: FL
EMI suppression capacitor PZB300 series, metallized paper, X2 and Y2 classes, 275 VAC, Cx 0.15uF, Cy 3.3nF, legacy P/N: PZB300MC22xxx; ki_keywords: suppressor filter cap; ki_fp_filters: Filter*PZB300*; Footprint: Filter:Filter_KEMET_PZB300_24.0x12.5mm_P10.0mm; Datasheet: https://content.kemet.com/datasheets/KEM_F3019_PZB300X2_2XY2_275.pdf; Description_: EMI suppression capacitor PZB300 series, metallized paper, X2 and Y2 classes, 275 VAC, Cx 0.15uF, Cy 3.3nF, legacy P/N: PZB300MC22xxx
pins: 1, 2, 3
text: Cx; Cy

## P300PL154M275xC472
designator *  value P300PL154M275xC472  Reference: FL
EMI suppression capacitor PZB300 series, metallized paper, X2 and Y2 classes, 275 VAC, Cx 0.15uF, Cy 4.7nF, legacy P/N: PZB300MC23xxx; ki_keywords: suppressor filter cap; ki_fp_filters: Filter*PZB300*; Footprint: Filter:Filter_KEMET_PZB300_24.0x12.5mm_P10.0mm; Datasheet: https://content.kemet.com/datasheets/KEM_F3019_PZB300X2_2XY2_275.pdf; Description_: EMI suppression capacitor PZB300 series, metallized paper, X2 and Y2 classes, 275 VAC, Cx 0.15uF, Cy 4.7nF, legacy P/N: PZB300MC23xxx
pins: 1, 2, 3
text: Cx; Cy

## SAFFA1G58KA0F0A
designator *  value SAFFA1G58KA0F0A  Reference: FL
Murata 1575.42/1602MHz SAW filter, SMD 1411; ki_fp_filters: Filter*1411*1.4x1.1mm*; Footprint: Filter:Filter_1411-5_1.4x1.1mm; Datasheet: https://www.murata.com/~/media/webrenewal/support/library/catalog/products/filter/rf/p73e.ashx?la=en; Description_: Murata 1575.42/1602MHz SAW filter, SMD 1411; ki_keywords: SAW filter
pins: 1, 2, 3, 4, 5

## SAFFA1G96FN0F0A
designator *  value SAFFA1G96FN0F0A  Reference: FL
Murata 1960MHz SAW filter, SMD 1411; ki_fp_filters: Filter*1411*1.4x1.1mm*; Footprint: Filter:Filter_1411-5_1.4x1.1mm; Datasheet: https://www.murata.com/~/media/webrenewal/support/library/catalog/products/filter/rf/p73e.ashx?la=en; Description_: Murata 1960MHz SAW filter, SMD 1411; ki_keywords: SAW filter
pins: 1, 2, 3, 4, 5

## SAFFA2G14FA0F0A
designator *  value SAFFA2G14FA0F0A  Reference: FL
Murata 2140MHz SAW filter, SMD 1411; ki_fp_filters: Filter*1411*1.4x1.1mm*; Footprint: Filter:Filter_1411-5_1.4x1.1mm; Datasheet: https://www.murata.com/~/media/webrenewal/support/library/catalog/products/filter/rf/p73e.ashx?la=en; Description_: Murata 2140MHz SAW filter, SMD 1411; ki_keywords: SAW filter
pins: 1, 2, 3, 4, 5

## SAFFA881MFL0F0A
designator *  value SAFFA881MFL0F0A  Reference: FL
Murata 881.5MHz SAW filter, SMD 1411; ki_fp_filters: Filter*1411*1.4x1.1mm*; Footprint: Filter:Filter_1411-5_1.4x1.1mm; Datasheet: https://www.murata.com/~/media/webrenewal/support/library/catalog/products/filter/rf/p73e.ashx?la=en; Description_: Murata 881.5MHz SAW filter, SMD 1411; ki_keywords: SAW filter
pins: 1, 2, 3, 4, 5

## SAFFA942MFM0F0A
designator *  value SAFFA942MFM0F0A  Reference: FL
Murata 942.5MHz SAW filter, SMD 1411; ki_fp_filters: Filter*1411*1.4x1.1mm*; Footprint: Filter:Filter_1411-5_1.4x1.1mm; Datasheet: https://www.murata.com/~/media/webrenewal/support/library/catalog/products/filter/rf/p73e.ashx?la=en; Description_: Murata 942.5MHz SAW filter, SMD 1411; ki_keywords: SAW filter
pins: 1, 2, 3, 4, 5

## SAFFB1G58KA0F0A
designator *  value SAFFB1G58KA0F0A  Reference: FL
Murata 1575.42/1602MHz SAW filter, SMD 1109; ki_fp_filters: Filter*1109*1.1x0.9mm*; Footprint: Filter:Filter_1109-5_1.1x0.9mm; Datasheet: https://www.murata.com/~/media/webrenewal/support/library/catalog/products/filter/rf/p73e.ashx?la=en; Description_: Murata 1575.42/1602MHz SAW filter, SMD 1109; ki_keywords: SAW filter
pins: 1, 2, 3, 4, 5

## SAFFB1G96FN0F0A
designator *  value SAFFB1G96FN0F0A  Reference: FL
Murata 1960MHz SAW filter, SMD 1109; ki_fp_filters: Filter*1109*1.1x0.9mm*; Footprint: Filter:Filter_1109-5_1.1x0.9mm; Datasheet: https://www.murata.com/~/media/webrenewal/support/library/catalog/products/filter/rf/p73e.ashx?la=en; Description_: Murata 1960MHz SAW filter, SMD 1109; ki_keywords: SAW filter
pins: 1, 2, 3, 4, 5

## SAFFB2G14FA0F0A
designator *  value SAFFB2G14FA0F0A  Reference: FL
Murata 2140MHz SAW filter, SMD 1109; ki_fp_filters: Filter*1109*1.1x0.9mm*; Footprint: Filter:Filter_1109-5_1.1x0.9mm; Datasheet: https://www.murata.com/~/media/webrenewal/support/library/catalog/products/filter/rf/p73e.ashx?la=en; Description_: Murata 2140MHz SAW filter, SMD 1109; ki_keywords: SAW filter
pins: 1, 2, 3, 4, 5

## SAFFB881MFL0F0A
designator *  value SAFFB881MFL0F0A  Reference: FL
Murata 881.5MHz SAW filter, SMD 1109; ki_fp_filters: Filter*1109*1.1x0.9mm*; Footprint: Filter:Filter_1109-5_1.1x0.9mm; Datasheet: https://www.murata.com/~/media/webrenewal/support/library/catalog/products/filter/rf/p73e.ashx?la=en; Description_: Murata 881.5MHz SAW filter, SMD 1109; ki_keywords: SAW filter
pins: 1, 2, 3, 4, 5

## SAFFB942MFM0F0A
designator *  value SAFFB942MFM0F0A  Reference: FL
Murata 942.5MHz SAW filter, SMD 1109; ki_fp_filters: Filter*1109*1.1x0.9mm*; Footprint: Filter:Filter_1109-5_1.1x0.9mm; Datasheet: https://www.murata.com/~/media/webrenewal/support/library/catalog/products/filter/rf/p73e.ashx?la=en; Description_: Murata 942.5MHz SAW filter, SMD 1109; ki_keywords: SAW filter
pins: 1, 2, 3, 4, 5

## SF14-1575F5UUA1
designator *  value SF14-1575F5UUA1  Reference: FL
1575MHz SAW filter, SMD 1411; ki_fp_filters: Filter*1411*1.4x1.1mm*; Footprint: Filter:Filter_1411-5_1.4x1.1mm; Datasheet: https://global.kyocera.com/prdct/electro/product/pdf/sf14_gnss.pdf; Description_: 1575MHz SAW filter, SMD 1411; ki_keywords: SAW filter
pins: 1, 2, 3, 4, 5

## SF14-1575F5UUC1
designator *  value SF14-1575F5UUC1  Reference: FL
1575MHz SAW filter, SMD 1411; ki_fp_filters: Filter*1411*1.4x1.1mm*; Footprint: Filter:Filter_1411-5_1.4x1.1mm; Datasheet: https://global.kyocera.com/prdct/electro/product/pdf/sf14_gnss.pdf; Description_: 1575MHz SAW filter, SMD 1411; ki_keywords: SAW filter
pins: 1, 2, 3, 4, 5